# Altium schematic symbol library DI_TVS.SchLib: 1 symbol
Pins are listed as number, name and electrical type; pins without a type are passive.

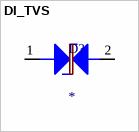
[diagram p0: symbol DI_TVS]

## DI_TVS
designator D?
TVS
pins: 1, 2